# Altium schematic symbol library SK16.SchLib: 1 symbol
Pins are listed as number, name and electrical type; pins without a type are passive.

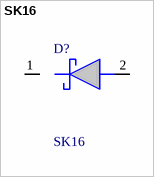
[diagram p0: symbol SK16]

## SK16
designator D?
Rectifier Diode Schottky 60V 1A 2-Pin SMA T/R; Manufacturer_Name: Diotec; Geometry.Height: 2.5mm; Mouser Part Number: 637-SK16; Mouser Price/Stock: https://www.mouser.co.uk/ProductDetail/Diotec-Semiconductor/SK16?qs=OlC7AqGiEDm3ojchOaQs2w%3D%3D; Manufacturer_Part_Number: SK16; Datasheet Link: https://diotec.com/request/datasheet/sk12.pdf
footprint DIOM5027X250N
pins: 1 K, 2 A